# Altium footprint library LTC2325HUKG-16PBF.PcbLib: 3 footprints
Each footprint in its own frame and in the unit in brackets; x right, y up, seen from the top. Pads: shape width x height; smd on the part's side, far side on the other; paste and mask are expansions set on the pad; w line width, h text height; cw(c..) or ccw(c..) is an arc to the next point about the centre after c.
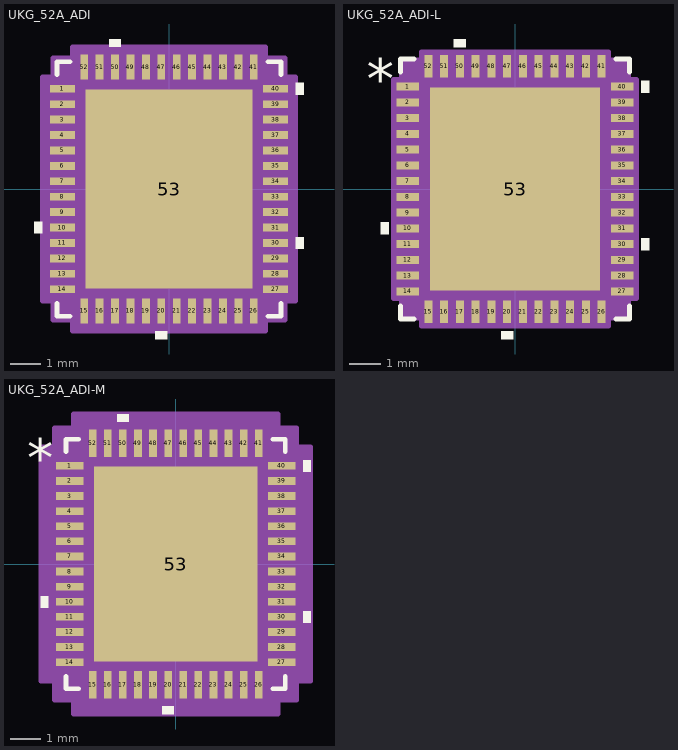
[diagram p0: the footprints below, top view; thin cyan lines are the x and y axes]

## UKG_52A_ADI [mil]
pads (53):
  rect 32x10 smd paste+0 mask+0: 1(-136,127.95) 2(-136,108.27) 3(-136,88.58) 4(-136,68.9) 5(-136,49.21) 6(-136,29.53) 7(-136,9.84) 8(-136,-9.84) 9(-136,-29.53) 10(-136,-49.21) 11(-136,-68.9) 12(-136,-88.58) 13(-136,-108.27) 14(-136,-127.95) 27(136,-127.95) 28(136,-108.27) 29(136,-88.58) 30(136,-68.9) 31(136,-49.21) 32(136,-29.53) 33(136,-9.84) 34(136,9.84) 35(136,29.53) 36(136,49.21) 37(136,68.9) 38(136,88.58) 39(136,108.27) 40(136,127.95)
  rect 10x32 smd paste+0 mask+0: 15(-108.27,-155.5) 16(-88.58,-155.5) 17(-68.9,-155.5) 18(-49.21,-155.5) 19(-29.53,-155.5) 20(-9.84,-155.5) 21(9.84,-155.5) 22(29.53,-155.5) 23(49.21,-155.5) 24(68.9,-155.5) 25(88.58,-155.5) 26(108.27,-155.5) 41(108.27,155.5) 42(88.58,155.5) 43(68.9,155.5) 44(49.21,155.5) 45(29.53,155.5) 46(9.84,155.5) 47(-9.84,155.5) 48(-29.53,155.5) 49(-49.21,155.5) 50(-68.9,155.5) 51(-88.58,155.5) 52(-108.27,155.5)
  rect 213x254 smd paste-106.5 mask+0: 53(0,0)
Top Overlay:
  region: -61.4,181.5 -76.4,181.5 -76.4,191.5 -61.4,191.5
  region: 162,135.45 172,135.45 172,120.45 162,120.45
  region: 162,-61.4 172,-61.4 172,-76.4 162,-76.4
  region: -2.34,-181.5 -17.34,-181.5 -17.34,-191.5 -2.34,-191.5
  region: -162,-41.71 -172,-41.71 -172,-56.71 -162,-56.71
  lines w6: -143,-146.05 -143,-162.5 -126.37,-162.5 ; -143,146.05 -143,162.5 -126.37,162.5 ; 126.37,-162.5 143,-162.5 143,-146.05 ; 126.37,162.5 143,162.5 143,146.05
Top Paste:
  region: 102.56,-80.14 57.19,-80.14 57.19,-123.06 102.56,-123.06
  region: 102.56,-29.34 57.19,-29.34 57.19,-72.26 102.56,-72.26
  region: 102.56,21.46 57.19,21.46 57.19,-21.46 102.56,-21.46
  region: 102.56,72.26 57.19,72.26 57.19,29.34 102.56,29.34
  region: 102.56,123.06 57.19,123.06 57.19,80.14 102.56,80.14
  region: 49.31,-80.14 3.94,-80.14 3.94,-123.06 49.31,-123.06
  region: 49.31,-29.34 3.94,-29.34 3.94,-72.26 49.31,-72.26
  region: 49.31,21.46 3.94,21.46 3.94,-21.46 49.31,-21.46
  region: 49.31,72.26 3.94,72.26 3.94,29.34 49.31,29.34
  region: 49.31,123.06 3.94,123.06 3.94,80.14 49.31,80.14
  region: -3.94,-80.14 -49.31,-80.14 -49.31,-123.06 -3.94,-123.06
  region: -3.94,-29.34 -49.31,-29.34 -49.31,-72.26 -3.94,-72.26
  region: -3.94,21.46 -49.31,21.46 -49.31,-21.46 -3.94,-21.46
  region: -3.94,72.26 -49.31,72.26 -49.31,29.34 -3.94,29.34
  region: -3.94,123.06 -49.31,123.06 -49.31,80.14 -3.94,80.14
  region: -57.19,-80.14 -102.56,-80.14 -102.56,-123.06 -57.19,-123.06
  region: -57.19,-29.34 -102.56,-29.34 -102.56,-72.26 -57.19,-72.26
  region: -57.19,21.46 -102.56,21.46 -102.56,-21.46 -57.19,-21.46
  region: -57.19,72.26 -102.56,72.26 -102.56,29.34 -57.19,29.34
  region: -57.19,123.06 -102.56,123.06 -102.56,80.14 -57.19,80.14
Mechanical 13:
  drawing of 213 lines, arcs and shapes, not listed
  text "*" at -132.5,112.8 h50
Mechanical 15:
  region: -123.27,-167.5 -148,-167.5 -148,-142.95 -162,-142.95 -162,142.95 -148,142.95 -148,167.5 -123.27,167.5 -123.27,181.5 123.27,181.5 123.27,167.5 148,167.5 148,142.95 162,142.95 162,-142.95 148,-142.95 148,-167.5 123.27,-167.5 123.27,-181.5 -123.27,-181.5
  lines w6: -162,-142.95 -162,142.95 -148,142.95 -148,167.5 -123.27,167.5 -123.27,181.5 123.27,181.5 123.27,167.5 148,167.5 148,142.95 162,142.95 162,-142.95 148,-142.95 148,-167.5 123.27,-167.5 123.27,-181.5 -123.27,-181.5 -123.27,-167.5 -148,-167.5 -148,-142.95 -162,-142.95
3D body "UKG_52A_ADI.step": height 32.09, standoff 0, extent -140,-159.49 140,159.49

## UKG_52A_ADI-L [mil]
pads (53):
  rect 28x10 smd paste+0 mask+0: 1(-134,127.95) 2(-134,108.27) 3(-134,88.58) 4(-134,68.9) 5(-134,49.21) 6(-134,29.53) 7(-134,9.84) 8(-134,-9.84) 9(-134,-29.53) 10(-134,-49.21) 11(-134,-68.9) 12(-134,-88.58) 13(-134,-108.27) 14(-134,-127.95) 27(134,-127.95) 28(134,-108.27) 29(134,-88.58) 30(134,-68.9) 31(134,-49.21) 32(134,-29.53) 33(134,-9.84) 34(134,9.84) 35(134,29.53) 36(134,49.21) 37(134,68.9) 38(134,88.58) 39(134,108.27) 40(134,127.95)
  rect 10x28 smd paste+0 mask+0: 15(-108.27,-153.5) 16(-88.58,-153.5) 17(-68.9,-153.5) 18(-49.21,-153.5) 19(-29.53,-153.5) 20(-9.84,-153.5) 21(9.84,-153.5) 22(29.53,-153.5) 23(49.21,-153.5) 24(68.9,-153.5) 25(88.58,-153.5) 26(108.27,-153.5) 41(108.27,153.5) 42(88.58,153.5) 43(68.9,153.5) 44(49.21,153.5) 45(29.53,153.5) 46(9.84,153.5) 47(-9.84,153.5) 48(-29.53,153.5) 49(-49.21,153.5) 50(-68.9,153.5) 51(-88.58,153.5) 52(-108.27,153.5)
  rect 213x254 smd paste-106.5 mask+0: 53(0,0)
Top Overlay:
  region: -158,-41.71 -168,-41.71 -168,-56.71 -158,-56.71
  region: -2.34,-177.5 -17.34,-177.5 -17.34,-187.5 -2.34,-187.5
  region: 158,-61.4 168,-61.4 168,-76.4 158,-76.4
  region: 158,135.45 168,135.45 168,120.45 158,120.45
  region: -61.4,177.5 -76.4,177.5 -76.4,187.5 -61.4,187.5
  lines w6: -143,-146.05 -143,-162.5 -126.37,-162.5 ; -143,146.05 -143,162.5 -126.37,162.5 ; 126.37,-162.5 143,-162.5 143,-146.05 ; 126.37,162.5 143,162.5 143,146.05
  text "*" at -185.5,112.8 h50
Top Paste:
  region: -57.19,123.06 -102.56,123.06 -102.56,80.14 -57.19,80.14
  region: -57.19,72.26 -102.56,72.26 -102.56,29.34 -57.19,29.34
  region: -57.19,21.46 -102.56,21.46 -102.56,-21.46 -57.19,-21.46
  region: -57.19,-29.34 -102.56,-29.34 -102.56,-72.26 -57.19,-72.26
  region: -57.19,-80.14 -102.56,-80.14 -102.56,-123.06 -57.19,-123.06
  region: -3.94,123.06 -49.31,123.06 -49.31,80.14 -3.94,80.14
  region: -3.94,72.26 -49.31,72.26 -49.31,29.34 -3.94,29.34
  region: -3.94,21.46 -49.31,21.46 -49.31,-21.46 -3.94,-21.46
  region: -3.94,-29.34 -49.31,-29.34 -49.31,-72.26 -3.94,-72.26
  region: -3.94,-80.14 -49.31,-80.14 -49.31,-123.06 -3.94,-123.06
  region: 49.31,123.06 3.94,123.06 3.94,80.14 49.31,80.14
  region: 49.31,72.26 3.94,72.26 3.94,29.34 49.31,29.34
  region: 49.31,21.46 3.94,21.46 3.94,-21.46 49.31,-21.46
  region: 49.31,-29.34 3.94,-29.34 3.94,-72.26 49.31,-72.26
  region: 49.31,-80.14 3.94,-80.14 3.94,-123.06 49.31,-123.06
  region: 102.56,123.06 57.19,123.06 57.19,80.14 102.56,80.14
  region: 102.56,72.26 57.19,72.26 57.19,29.34 102.56,29.34
  region: 102.56,21.46 57.19,21.46 57.19,-21.46 102.56,-21.46
  region: 102.56,-29.34 57.19,-29.34 57.19,-72.26 102.56,-72.26
  region: 102.56,-80.14 57.19,-80.14 57.19,-123.06 102.56,-123.06
Mechanical 13:
  drawing of 217 lines, arcs and shapes, not listed
  text "*" at -132.5,112.8 h50
Mechanical 15:
  region: -117.27,-161.5 -142,-161.5 -142,-136.95 -152,-136.95 -152,136.95 -142,136.95 -142,161.5 -117.27,161.5 -117.27,171.5 117.27,171.5 117.27,161.5 142,161.5 142,136.95 152,136.95 152,-136.95 142,-136.95 142,-161.5 117.27,-161.5 117.27,-171.5 -117.27,-171.5
  lines w6: -152,-136.95 -142,-136.95 -142,-161.5 -117.27,-161.5 -117.27,-171.5 117.27,-171.5 117.27,-161.5 142,-161.5 142,-136.95 152,-136.95 152,136.95 142,136.95 142,161.5 117.27,161.5 117.27,171.5 -117.27,171.5 -117.27,161.5 -142,161.5 -142,136.95 -152,136.95 -152,-136.95
3D body "UKG_52A_ADI.step": height 32.09, standoff 0, extent -140,-159.49 140,159.49

## UKG_52A_ADI-M [mil]
pads (53):
  rect 36x10 smd paste+0 mask+0: 1(-138,127.95) 2(-138,108.27) 3(-138,88.58) 4(-138,68.9) 5(-138,49.21) 6(-138,29.53) 7(-138,9.84) 8(-138,-9.84) 9(-138,-29.53) 10(-138,-49.21) 11(-138,-68.9) 12(-138,-88.58) 13(-138,-108.27) 14(-138,-127.95) 27(138,-127.95) 28(138,-108.27) 29(138,-88.58) 30(138,-68.9) 31(138,-49.21) 32(138,-29.53) 33(138,-9.84) 34(138,9.84) 35(138,29.53) 36(138,49.21) 37(138,68.9) 38(138,88.58) 39(138,108.27) 40(138,127.95)
  rect 10x36 smd paste+0 mask+0: 15(-108.27,-157.5) 16(-88.58,-157.5) 17(-68.9,-157.5) 18(-49.21,-157.5) 19(-29.53,-157.5) 20(-9.84,-157.5) 21(9.84,-157.5) 22(29.53,-157.5) 23(49.21,-157.5) 24(68.9,-157.5) 25(88.58,-157.5) 26(108.27,-157.5) 41(108.27,157.5) 42(88.58,157.5) 43(68.9,157.5) 44(49.21,157.5) 45(29.53,157.5) 46(9.84,157.5) 47(-9.84,157.5) 48(-29.53,157.5) 49(-49.21,157.5) 50(-68.9,157.5) 51(-88.58,157.5) 52(-108.27,157.5)
  rect 213x254 smd paste-106.5 mask+0: 53(0,0)
Top Overlay:
  region: -166,-41.71 -176,-41.71 -176,-56.71 -166,-56.71
  region: -2.34,-185.5 -17.34,-185.5 -17.34,-195.5 -2.34,-195.5
  region: 166,-61.4 176,-61.4 176,-76.4 166,-76.4
  region: 166,135.45 176,135.45 176,120.45 166,120.45
  region: -61.4,185.5 -76.4,185.5 -76.4,195.5 -61.4,195.5
  lines w6: -143,-146.05 -143,-162.5 -126.37,-162.5 ; -143,146.05 -143,162.5 -126.37,162.5 ; 126.37,-162.5 143,-162.5 143,-146.05 ; 126.37,162.5 143,162.5 143,146.05
  text "*" at -193.5,112.8 h50
Top Paste:
  region: -57.19,123.06 -102.56,123.06 -102.56,80.14 -57.19,80.14
  region: -57.19,72.26 -102.56,72.26 -102.56,29.34 -57.19,29.34
  region: -57.19,21.46 -102.56,21.46 -102.56,-21.46 -57.19,-21.46
  region: -57.19,-29.34 -102.56,-29.34 -102.56,-72.26 -57.19,-72.26
  region: -57.19,-80.14 -102.56,-80.14 -102.56,-123.06 -57.19,-123.06
  region: -3.94,123.06 -49.31,123.06 -49.31,80.14 -3.94,80.14
  region: -3.94,72.26 -49.31,72.26 -49.31,29.34 -3.94,29.34
  region: -3.94,21.46 -49.31,21.46 -49.31,-21.46 -3.94,-21.46
  region: -3.94,-29.34 -49.31,-29.34 -49.31,-72.26 -3.94,-72.26
  region: -3.94,-80.14 -49.31,-80.14 -49.31,-123.06 -3.94,-123.06
  region: 49.31,123.06 3.94,123.06 3.94,80.14 49.31,80.14
  region: 49.31,72.26 3.94,72.26 3.94,29.34 49.31,29.34
  region: 49.31,21.46 3.94,21.46 3.94,-21.46 49.31,-21.46
  region: 49.31,-29.34 3.94,-29.34 3.94,-72.26 49.31,-72.26
  region: 49.31,-80.14 3.94,-80.14 3.94,-123.06 49.31,-123.06
  region: 102.56,123.06 57.19,123.06 57.19,80.14 102.56,80.14
  region: 102.56,72.26 57.19,72.26 57.19,29.34 102.56,29.34
  region: 102.56,21.46 57.19,21.46 57.19,-21.46 102.56,-21.46
  region: 102.56,-29.34 57.19,-29.34 57.19,-72.26 102.56,-72.26
  region: 102.56,-80.14 57.19,-80.14 57.19,-123.06 102.56,-123.06
Mechanical 13:
  drawing of 217 lines, arcs and shapes, not listed
  text "*" at -132.5,112.8 h50
Mechanical 15:
  region: -133.27,-177.5 -158,-177.5 -158,-152.95 -176,-152.95 -176,152.95 -158,152.95 -158,177.5 -133.27,177.5 -133.27,195.5 133.27,195.5 133.27,177.5 158,177.5 158,152.95 176,152.95 176,-152.95 158,-152.95 158,-177.5 133.27,-177.5 133.27,-195.5 -133.27,-195.5
  lines w6: -176,-152.95 -158,-152.95 -158,-177.5 -133.27,-177.5 -133.27,-195.5 133.27,-195.5 133.27,-177.5 158,-177.5 158,-152.95 176,-152.95 176,152.95 158,152.95 158,177.5 133.27,177.5 133.27,195.5 -133.27,195.5 -133.27,177.5 -158,177.5 -158,152.95 -176,152.95 -176,-152.95
3D body "UKG_52A_ADI.step": height 32.09, standoff 0, extent -140,-159.49 140,159.49